# Altium footprint library V-DFN3020-13.PcbLib: 1 footprints
Each footprint in its own frame and in the unit in brackets; x right, y up, seen from the top. Pads: shape width x height; smd on the part's side, far side on the other; paste and mask are expansions set on the pad; w line width, h text height; cw(c..) or ccw(c..) is an arc to the next point about the centre after c.
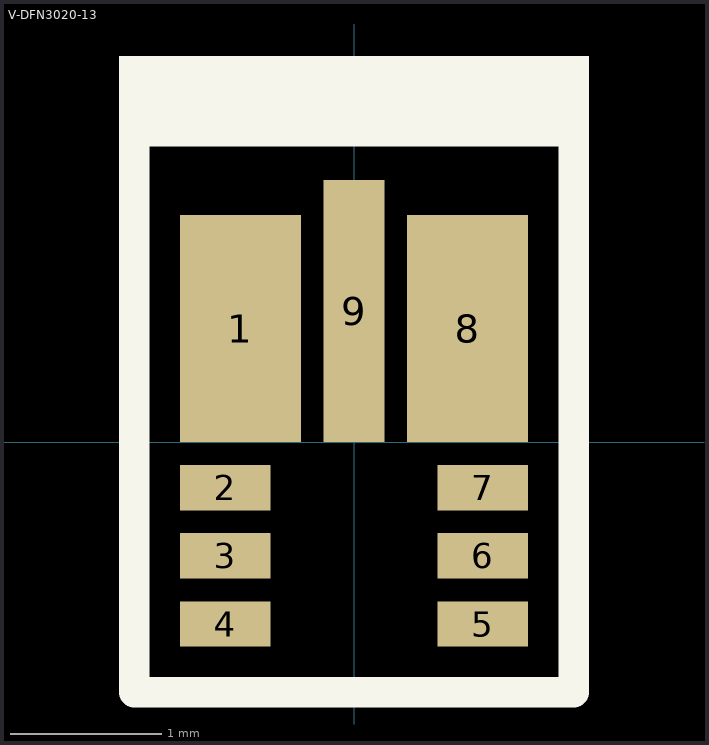
[diagram p0: the footprint, top view; thin cyan lines are the x and y axes]

## V-DFN3020-13 [mm]
height 0.85
pads (9):
  rect 0.8x1.5 smd: 1(-0.75,0.75) 8(0.75,0.75)
  rect 0.6x0.3 smd: 2(-0.85,-0.3) 3(-0.85,-0.75) 4(-0.85,-1.2) 5(0.85,-1.2) 6(0.85,-0.75) 7(0.85,-0.3)
  rect 0.4x1.73 smd: 9(0,0.865)
Top Overlay:
  rectangle: -1.55,2.05 1.55,2.55
  lines w0.2: -1.45,-1.65 -1.45,2.05 1.45,2.05 1.45,-1.65 -1.45,-1.65
3D body: height 0.85, standoff 0, extent -1.025,-1.5 1.025,1.55
3D body: height 0.86, standoff 0.85, extent -1.025,1.15 1.025,1.55